# Altium footprint library Maxim Sensors.PcbLib: 240 footprints (part 3 of 15)
Each footprint in its own frame and in the unit in brackets; x right, y up, seen from the top. Pads: shape width x height; smd on the part's side, far side on the other; paste and mask are expansions set on the pad; w line width, h text height; cw(c..) or ccw(c..) is an arc to the next point about the centre after c.
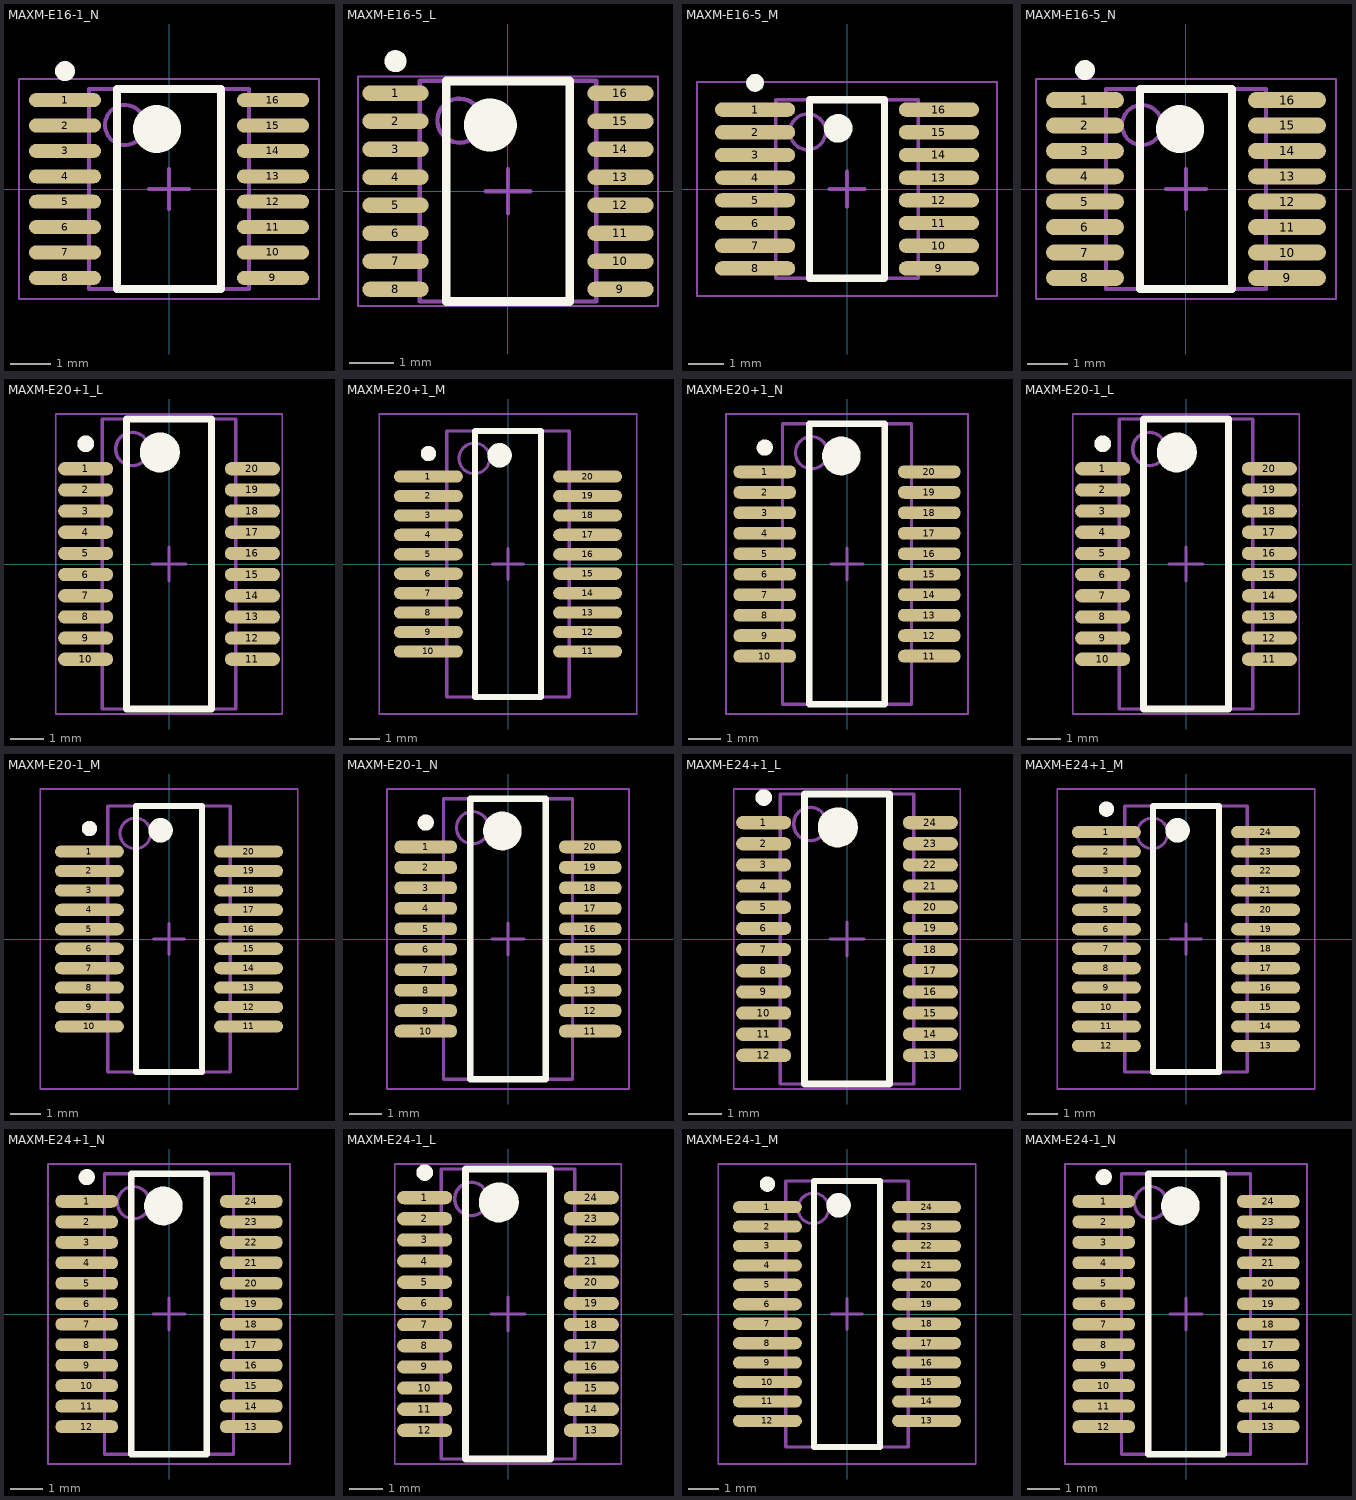
[diagram p2: the footprints below, top view; thin cyan lines are the x and y axes]

## MAXM-E16-1_N [mm] "SOP, 16-Leads, Body 4.9x3.89mm, Pitch 0.635mm, IPC Medium Density"
height 1.75
pads (16):
  oval 1.8x0.35 smd: 1(-2.6,2.222) 2(-2.6,1.587) 3(-2.6,0.953) 4(-2.6,0.318) 5(-2.6,-0.318) 6(-2.6,-0.953) 7(-2.6,-1.587) 8(-2.6,-2.222) 9(2.6,-2.222) 10(2.6,-1.587) 11(2.6,-0.953) 12(2.6,-0.318) 13(2.6,0.318) 14(2.6,0.953) 15(2.6,1.587) 16(2.6,2.222)
Top Overlay:
  circle w0.25: c-2.6,2.947 r0.125
  circle w0.6: c-0.3,1.5 r0.3
  lines w0.2: -1.3,-2.5 -1.3,2.5 1.3,2.5 1.3,-2.5 -1.3,-2.5
Mechanical 13:
  circle w0.1: c-1.1,1.6 r0.5
  lines w0.1: -2,-2.5 -2,2.5 2,2.5 2,-2.5 -2,-2.5
Mechanical 15:
  lines w0.05: -3.75,-2.75 -3.75,2.75 3.75,2.75 3.75,-2.75 -3.75,-2.75
  lines w0.1: -0.5,0 0.5,0 ; 0,-0.5 0,0.5
3D body: height 1.75, standoff 0.1, extent -2,-2.5 2,2.5

## MAXM-E16-5_L [mm] "SOP, 16-Leads, Body 4.89x3.9mm, Pitch 0.635mm, IPC High Density"
height 1.75
pads (16):
  oval 1.5x0.35 smd: 1(-2.55,2.222) 2(-2.55,1.587) 3(-2.55,0.953) 4(-2.55,0.318) 5(-2.55,-0.318) 6(-2.55,-0.953) 7(-2.55,-1.587) 8(-2.55,-2.222) 9(2.55,-2.222) 10(2.55,-1.587) 11(2.55,-0.953) 12(2.55,-0.318) 13(2.55,0.318) 14(2.55,0.953) 15(2.55,1.587) 16(2.55,2.222)
Top Overlay:
  circle w0.25: c-2.55,2.947 r0.125
  circle w0.6: c-0.4,1.5 r0.3
  lines w0.2: -1.4,-2.5 -1.4,2.5 1.4,2.5 1.4,-2.5 -1.4,-2.5
Mechanical 13:
  circle w0.1: c-1.1,1.6 r0.5
  lines w0.1: -2,-2.5 -2,2.5 2,2.5 2,-2.5 -2,-2.5
Mechanical 15:
  lines w0.05: -3.4,-2.6 -3.4,2.6 3.4,2.6 3.4,-2.6 -3.4,-2.6
  lines w0.1: -0.5,0 0.5,0 ; 0,-0.5 0,0.5
3D body: height 1.75, standoff 0.1, extent -2,-2.5 2,2.5

## MAXM-E16-5_M [mm] "SOP, 16-Leads, Body 4.89x3.9mm, Pitch 0.635mm, IPC Low Density"
height 1.75
pads (16):
  oval 2.25x0.4 smd: 1(-2.575,2.222) 2(-2.575,1.587) 3(-2.575,0.953) 4(-2.575,0.318) 5(-2.575,-0.318) 6(-2.575,-0.953) 7(-2.575,-1.587) 8(-2.575,-2.222) 9(2.575,-2.222) 10(2.575,-1.587) 11(2.575,-0.953) 12(2.575,-0.318) 13(2.575,0.318) 14(2.575,0.953) 15(2.575,1.587) 16(2.575,2.222)
Top Overlay:
  circle w0.25: c-2.575,2.973 r0.125
  circle w0.4: c-0.25,1.7 r0.2
  lines w0.2: -1.05,-2.5 -1.05,2.5 1.05,2.5 1.05,-2.5 -1.05,-2.5
Mechanical 13:
  circle w0.1: c-1.1,1.6 r0.5
  lines w0.1: -2,-2.5 -2,2.5 2,2.5 2,-2.5 -2,-2.5
Mechanical 15:
  lines w0.05: -4.2,-3 -4.2,3 4.2,3 4.2,-3 -4.2,-3
  lines w0.1: -0.5,0 0.5,0 ; 0,-0.5 0,0.5
3D body: height 1.75, standoff 0.1, extent -2,-2.5 2,2.5

## MAXM-E16-5_N [mm] "SOP, 16-Leads, Body 4.89x3.9mm, Pitch 0.635mm, IPC Medium Density"
height 1.75
pads (16):
  oval 1.95x0.4 smd: 1(-2.525,2.222) 2(-2.525,1.587) 3(-2.525,0.953) 4(-2.525,0.318) 5(-2.525,-0.318) 6(-2.525,-0.953) 7(-2.525,-1.587) 8(-2.525,-2.222) 9(2.525,-2.222) 10(2.525,-1.587) 11(2.525,-0.953) 12(2.525,-0.318) 13(2.525,0.318) 14(2.525,0.953) 15(2.525,1.587) 16(2.525,2.222)
Top Overlay:
  circle w0.6: c-0.15,1.5 r0.3
  circle w0.25: c-2.525,2.973 r0.125
  lines w0.2: -1.15,-2.5 1.15,-2.5 1.15,2.5 -1.15,2.5 -1.15,-2.5
Mechanical 13:
  circle w0.1: c-1.1,1.6 r0.5
  lines w0.1: -2,-2.5 2,-2.5 2,2.5 -2,2.5 -2,-2.5
Mechanical 15:
  lines w0.05: -3.75,-2.75 3.75,-2.75 3.75,2.75 -3.75,2.75 -3.75,-2.75
  lines w0.1: -0.5,0 0.5,0 ; 0,-0.5 0,0.5
3D body: height 1.75, standoff 0.1, extent -2,-2.5 2,2.5

## MAXM-E20+1_L [mm] "SOP, 20-Leads, Body 8.65x3.9mm, Pitch 0.635mm, IPC High Density"
height 1.75
pads (20):
  oval 1.65x0.4 smd: 1(-2.5,2.857) 2(-2.5,2.222) 3(-2.5,1.587) 4(-2.5,0.953) 5(-2.5,0.318) 6(-2.5,-0.318) 7(-2.5,-0.953) 8(-2.5,-1.587) 9(-2.5,-2.222) 10(-2.5,-2.857) 11(2.5,-2.857) 12(2.5,-2.222) 13(2.5,-1.587) 14(2.5,-0.953) 15(2.5,-0.318) 16(2.5,0.318) 17(2.5,0.953) 18(2.5,1.587) 19(2.5,2.222) 20(2.5,2.857)
Top Overlay:
  circle w0.25: c-2.5,3.608 r0.125
  circle w0.6: c-0.275,3.35 r0.3
  lines w0.2: -1.275,-4.35 -1.275,4.35 1.275,4.35 1.275,-4.35 -1.275,-4.35
Mechanical 13:
  circle w0.1: c-1.1,3.45 r0.5
  lines w0.1: -2,-4.35 -2,4.35 2,4.35 2,-4.35 -2,-4.35
Mechanical 15:
  lines w0.05: -3.4,-4.5 -3.4,4.5 3.4,4.5 3.4,-4.5 -3.4,-4.5
  lines w0.1: -0.5,0 0.5,0 ; 0,-0.5 0,0.5
3D body: height 1.75, standoff 0.1, extent -2,-4.35 2,4.35

## MAXM-E20+1_M [mm] "SOP, 20-Leads, Body 8.65x3.9mm, Pitch 0.635mm, IPC Low Density"
height 1.75
pads (20):
  oval 2.25x0.4 smd: 1(-2.6,2.857) 2(-2.6,2.222) 3(-2.6,1.587) 4(-2.6,0.953) 5(-2.6,0.318) 6(-2.6,-0.318) 7(-2.6,-0.953) 8(-2.6,-1.587) 9(-2.6,-2.222) 10(-2.6,-2.857) 11(2.6,-2.857) 12(2.6,-2.222) 13(2.6,-1.587) 14(2.6,-0.953) 15(2.6,-0.318) 16(2.6,0.318) 17(2.6,0.953) 18(2.6,1.587) 19(2.6,2.222) 20(2.6,2.857)
Top Overlay:
  circle w0.25: c-2.6,3.608 r0.125
  circle w0.4: c-0.275,3.55 r0.2
  lines w0.2: -1.075,-4.35 -1.075,4.35 1.075,4.35 1.075,-4.35 -1.075,-4.35
Mechanical 13:
  circle w0.1: c-1.1,3.45 r0.5
  lines w0.1: -2,-4.35 -2,4.35 2,4.35 2,-4.35 -2,-4.35
Mechanical 15:
  lines w0.05: -4.2,-4.9 -4.2,4.9 4.2,4.9 4.2,-4.9 -4.2,-4.9
  lines w0.1: -0.5,0 0.5,0 ; 0,-0.5 0,0.5
3D body: height 1.75, standoff 0.1, extent -2,-4.35 2,4.35

## MAXM-E20+1_N [mm] "SOP, 20-Leads, Body 8.65x3.9mm, Pitch 0.635mm, IPC Medium Density"
height 1.75
pads (20):
  oval 1.95x0.4 smd: 1(-2.55,2.857) 2(-2.55,2.222) 3(-2.55,1.587) 4(-2.55,0.953) 5(-2.55,0.318) 6(-2.55,-0.318) 7(-2.55,-0.953) 8(-2.55,-1.587) 9(-2.55,-2.222) 10(-2.55,-2.857) 11(2.55,-2.857) 12(2.55,-2.222) 13(2.55,-1.587) 14(2.55,-0.953) 15(2.55,-0.318) 16(2.55,0.318) 17(2.55,0.953) 18(2.55,1.587) 19(2.55,2.222) 20(2.55,2.857)
Top Overlay:
  circle w0.25: c-2.55,3.608 r0.125
  circle w0.6: c-0.175,3.35 r0.3
  lines w0.2: -1.175,-4.35 -1.175,4.35 1.175,4.35 1.175,-4.35 -1.175,-4.35
Mechanical 13:
  circle w0.1: c-1.1,3.45 r0.5
  lines w0.1: -2,-4.35 -2,4.35 2,4.35 2,-4.35 -2,-4.35
Mechanical 15:
  lines w0.05: -3.75,-4.65 -3.75,4.65 3.75,4.65 3.75,-4.65 -3.75,-4.65
  lines w0.1: -0.5,0 0.5,0 ; 0,-0.5 0,0.5
3D body: height 1.75, standoff 0.1, extent -2,-4.35 2,4.35

## MAXM-E20-1_L [mm] "SOP, 20-Leads, Body 8.65x3.9mm, Pitch 0.635mm, IPC High Density"
height 1.75
pads (20):
  oval 1.65x0.4 smd: 1(-2.5,2.857) 2(-2.5,2.222) 3(-2.5,1.587) 4(-2.5,0.953) 5(-2.5,0.318) 6(-2.5,-0.318) 7(-2.5,-0.953) 8(-2.5,-1.587) 9(-2.5,-2.222) 10(-2.5,-2.857) 11(2.5,-2.857) 12(2.5,-2.222) 13(2.5,-1.587) 14(2.5,-0.953) 15(2.5,-0.318) 16(2.5,0.318) 17(2.5,0.953) 18(2.5,1.587) 19(2.5,2.222) 20(2.5,2.857)
Top Overlay:
  circle w0.25: c-2.5,3.608 r0.125
  circle w0.6: c-0.275,3.35 r0.3
  lines w0.2: -1.275,-4.35 -1.275,4.35 1.275,4.35 1.275,-4.35 -1.275,-4.35
Mechanical 13:
  circle w0.1: c-1.1,3.45 r0.5
  lines w0.1: -2,-4.35 -2,4.35 2,4.35 2,-4.35 -2,-4.35
Mechanical 15:
  lines w0.05: -3.4,-4.5 -3.4,4.5 3.4,4.5 3.4,-4.5 -3.4,-4.5
  lines w0.1: -0.5,0 0.5,0 ; 0,-0.5 0,0.5
3D body: height 1.75, standoff 0.1, extent -2,-4.35 2,4.35

## MAXM-E20-1_M [mm] "SOP, 20-Leads, Body 8.65x3.9mm, Pitch 0.635mm, IPC Low Density"
height 1.75
pads (20):
  oval 2.25x0.4 smd: 1(-2.6,2.857) 2(-2.6,2.222) 3(-2.6,1.587) 4(-2.6,0.953) 5(-2.6,0.318) 6(-2.6,-0.318) 7(-2.6,-0.953) 8(-2.6,-1.587) 9(-2.6,-2.222) 10(-2.6,-2.857) 11(2.6,-2.857) 12(2.6,-2.222) 13(2.6,-1.587) 14(2.6,-0.953) 15(2.6,-0.318) 16(2.6,0.318) 17(2.6,0.953) 18(2.6,1.587) 19(2.6,2.222) 20(2.6,2.857)
Top Overlay:
  circle w0.25: c-2.6,3.608 r0.125
  circle w0.4: c-0.275,3.55 r0.2
  lines w0.2: -1.075,-4.35 -1.075,4.35 1.075,4.35 1.075,-4.35 -1.075,-4.35
Mechanical 13:
  circle w0.1: c-1.1,3.45 r0.5
  lines w0.1: -2,-4.35 -2,4.35 2,4.35 2,-4.35 -2,-4.35
Mechanical 15:
  lines w0.05: -4.2,-4.9 -4.2,4.9 4.2,4.9 4.2,-4.9 -4.2,-4.9
  lines w0.1: -0.5,0 0.5,0 ; 0,-0.5 0,0.5
3D body: height 1.75, standoff 0.1, extent -2,-4.35 2,4.35

## MAXM-E20-1_N [mm] "SOP, 20-Leads, Body 8.65x3.9mm, Pitch 0.635mm, IPC Medium Density"
height 1.75
pads (20):
  oval 1.95x0.4 smd: 1(-2.55,2.857) 2(-2.55,2.222) 3(-2.55,1.587) 4(-2.55,0.953) 5(-2.55,0.318) 6(-2.55,-0.318) 7(-2.55,-0.953) 8(-2.55,-1.587) 9(-2.55,-2.222) 10(-2.55,-2.857) 11(2.55,-2.857) 12(2.55,-2.222) 13(2.55,-1.587) 14(2.55,-0.953) 15(2.55,-0.318) 16(2.55,0.318) 17(2.55,0.953) 18(2.55,1.587) 19(2.55,2.222) 20(2.55,2.857)
Top Overlay:
  circle w0.25: c-2.55,3.608 r0.125
  circle w0.6: c-0.175,3.35 r0.3
  lines w0.2: -1.175,-4.35 -1.175,4.35 1.175,4.35 1.175,-4.35 -1.175,-4.35
Mechanical 13:
  circle w0.1: c-1.1,3.45 r0.5
  lines w0.1: -2,-4.35 -2,4.35 2,4.35 2,-4.35 -2,-4.35
Mechanical 15:
  lines w0.05: -3.75,-4.65 -3.75,4.65 3.75,4.65 3.75,-4.65 -3.75,-4.65
  lines w0.1: -0.5,0 0.5,0 ; 0,-0.5 0,0.5
3D body: height 1.75, standoff 0.1, extent -2,-4.35 2,4.35

## MAXM-E24+1_L [mm] "SOP, 24-Leads, Body 8.65x3.9mm, Pitch 0.635mm, IPC High Density"
height 1.75
pads (24):
  oval 1.65x0.4 smd: 1(-2.5,3.492) 2(-2.5,2.857) 3(-2.5,2.222) 4(-2.5,1.587) 5(-2.5,0.953) 6(-2.5,0.318) 7(-2.5,-0.318) 8(-2.5,-0.953) 9(-2.5,-1.587) 10(-2.5,-2.222) 11(-2.5,-2.857) 12(-2.5,-3.492) 13(2.5,-3.492) 14(2.5,-2.857) 15(2.5,-2.222) 16(2.5,-1.587) 17(2.5,-0.953) 18(2.5,-0.318) 19(2.5,0.318) 20(2.5,0.953) 21(2.5,1.587) 22(2.5,2.222) 23(2.5,2.857) 24(2.5,3.492)
Top Overlay:
  circle w0.25: c-2.5,4.243 r0.125
  circle w0.6: c-0.275,3.35 r0.3
  lines w0.2: -1.275,-4.35 -1.275,4.35 1.275,4.35 1.275,-4.35 -1.275,-4.35
Mechanical 13:
  circle w0.1: c-1.1,3.45 r0.5
  lines w0.1: -2,-4.35 -2,4.35 2,4.35 2,-4.35 -2,-4.35
Mechanical 15:
  lines w0.05: -3.4,-4.5 -3.4,4.5 3.4,4.5 3.4,-4.5 -3.4,-4.5
  lines w0.1: -0.5,0 0.5,0 ; 0,-0.5 0,0.5
3D body: height 1.75, standoff 0.1, extent -2,-4.35 2,4.35

## MAXM-E24+1_M [mm] "SOP, 24-Leads, Body 8.65x3.9mm, Pitch 0.635mm, IPC Low Density"
height 1.75
pads (24):
  oval 2.25x0.4 smd: 1(-2.6,3.492) 2(-2.6,2.857) 3(-2.6,2.222) 4(-2.6,1.587) 5(-2.6,0.953) 6(-2.6,0.318) 7(-2.6,-0.318) 8(-2.6,-0.953) 9(-2.6,-1.587) 10(-2.6,-2.222) 11(-2.6,-2.857) 12(-2.6,-3.492) 13(2.6,-3.492) 14(2.6,-2.857) 15(2.6,-2.222) 16(2.6,-1.587) 17(2.6,-0.953) 18(2.6,-0.318) 19(2.6,0.318) 20(2.6,0.953) 21(2.6,1.587) 22(2.6,2.222) 23(2.6,2.857) 24(2.6,3.492)
Top Overlay:
  circle w0.25: c-2.6,4.243 r0.125
  circle w0.4: c-0.275,3.55 r0.2
  lines w0.2: -1.075,-4.35 -1.075,4.35 1.075,4.35 1.075,-4.35 -1.075,-4.35
Mechanical 13:
  circle w0.1: c-1.1,3.45 r0.5
  lines w0.1: -2,-4.35 -2,4.35 2,4.35 2,-4.35 -2,-4.35
Mechanical 15:
  lines w0.05: -4.2,-4.9 -4.2,4.9 4.2,4.9 4.2,-4.9 -4.2,-4.9
  lines w0.1: -0.5,0 0.5,0 ; 0,-0.5 0,0.5
3D body: height 1.75, standoff 0.1, extent -2,-4.35 2,4.35

## MAXM-E24+1_N [mm] "SOP, 24-Leads, Body 8.65x3.9mm, Pitch 0.635mm, IPC Medium Density"
height 1.75
pads (24):
  oval 1.95x0.4 smd: 1(-2.55,3.492) 2(-2.55,2.857) 3(-2.55,2.222) 4(-2.55,1.587) 5(-2.55,0.953) 6(-2.55,0.318) 7(-2.55,-0.318) 8(-2.55,-0.953) 9(-2.55,-1.587) 10(-2.55,-2.222) 11(-2.55,-2.857) 12(-2.55,-3.492) 13(2.55,-3.492) 14(2.55,-2.857) 15(2.55,-2.222) 16(2.55,-1.587) 17(2.55,-0.953) 18(2.55,-0.318) 19(2.55,0.318) 20(2.55,0.953) 21(2.55,1.587) 22(2.55,2.222) 23(2.55,2.857) 24(2.55,3.492)
Top Overlay:
  circle w0.25: c-2.55,4.243 r0.125
  circle w0.6: c-0.175,3.35 r0.3
  lines w0.2: -1.175,-4.35 -1.175,4.35 1.175,4.35 1.175,-4.35 -1.175,-4.35
Mechanical 13:
  circle w0.1: c-1.1,3.45 r0.5
  lines w0.1: -2,-4.35 -2,4.35 2,4.35 2,-4.35 -2,-4.35
Mechanical 15:
  lines w0.05: -3.75,-4.65 -3.75,4.65 3.75,4.65 3.75,-4.65 -3.75,-4.65
  lines w0.1: -0.5,0 0.5,0 ; 0,-0.5 0,0.5
3D body: height 1.75, standoff 0.1, extent -2,-4.35 2,4.35

## MAXM-E24-1_L [mm] "SOP, 24-Leads, Body 8.65x3.9mm, Pitch 0.635mm, IPC High Density"
height 1.75
pads (24):
  oval 1.65x0.4 smd: 1(-2.5,3.492) 2(-2.5,2.857) 3(-2.5,2.222) 4(-2.5,1.587) 5(-2.5,0.953) 6(-2.5,0.318) 7(-2.5,-0.318) 8(-2.5,-0.953) 9(-2.5,-1.587) 10(-2.5,-2.222) 11(-2.5,-2.857) 12(-2.5,-3.492) 13(2.5,-3.492) 14(2.5,-2.857) 15(2.5,-2.222) 16(2.5,-1.587) 17(2.5,-0.953) 18(2.5,-0.318) 19(2.5,0.318) 20(2.5,0.953) 21(2.5,1.587) 22(2.5,2.222) 23(2.5,2.857) 24(2.5,3.492)
Top Overlay:
  circle w0.25: c-2.5,4.243 r0.125
  circle w0.6: c-0.275,3.35 r0.3
  lines w0.2: -1.275,-4.35 -1.275,4.35 1.275,4.35 1.275,-4.35 -1.275,-4.35
Mechanical 13:
  circle w0.1: c-1.1,3.45 r0.5
  lines w0.1: -2,-4.35 -2,4.35 2,4.35 2,-4.35 -2,-4.35
Mechanical 15:
  lines w0.05: -3.4,-4.5 -3.4,4.5 3.4,4.5 3.4,-4.5 -3.4,-4.5
  lines w0.1: -0.5,0 0.5,0 ; 0,-0.5 0,0.5
3D body: height 1.75, standoff 0.1, extent -2,-4.35 2,4.35

## MAXM-E24-1_M [mm] "SOP, 24-Leads, Body 8.65x3.9mm, Pitch 0.635mm, IPC Low Density"
height 1.75
pads (24):
  oval 2.25x0.4 smd: 1(-2.6,3.492) 2(-2.6,2.857) 3(-2.6,2.222) 4(-2.6,1.587) 5(-2.6,0.953) 6(-2.6,0.318) 7(-2.6,-0.318) 8(-2.6,-0.953) 9(-2.6,-1.587) 10(-2.6,-2.222) 11(-2.6,-2.857) 12(-2.6,-3.492) 13(2.6,-3.492) 14(2.6,-2.857) 15(2.6,-2.222) 16(2.6,-1.587) 17(2.6,-0.953) 18(2.6,-0.318) 19(2.6,0.318) 20(2.6,0.953) 21(2.6,1.587) 22(2.6,2.222) 23(2.6,2.857) 24(2.6,3.492)
Top Overlay:
  circle w0.25: c-2.6,4.243 r0.125
  circle w0.4: c-0.275,3.55 r0.2
  lines w0.2: -1.075,-4.35 -1.075,4.35 1.075,4.35 1.075,-4.35 -1.075,-4.35
Mechanical 13:
  circle w0.1: c-1.1,3.45 r0.5
  lines w0.1: -2,-4.35 -2,4.35 2,4.35 2,-4.35 -2,-4.35
Mechanical 15:
  lines w0.05: -4.2,-4.9 -4.2,4.9 4.2,4.9 4.2,-4.9 -4.2,-4.9
  lines w0.1: -0.5,0 0.5,0 ; 0,-0.5 0,0.5
3D body: height 1.75, standoff 0.1, extent -2,-4.35 2,4.35

## MAXM-E24-1_N [mm] "SOP, 24-Leads, Body 8.65x3.9mm, Pitch 0.635mm, IPC Medium Density"
height 1.75
pads (24):
  oval 1.95x0.4 smd: 1(-2.55,3.492) 2(-2.55,2.857) 3(-2.55,2.222) 4(-2.55,1.587) 5(-2.55,0.953) 6(-2.55,0.318) 7(-2.55,-0.318) 8(-2.55,-0.953) 9(-2.55,-1.587) 10(-2.55,-2.222) 11(-2.55,-2.857) 12(-2.55,-3.492) 13(2.55,-3.492) 14(2.55,-2.857) 15(2.55,-2.222) 16(2.55,-1.587) 17(2.55,-0.953) 18(2.55,-0.318) 19(2.55,0.318) 20(2.55,0.953) 21(2.55,1.587) 22(2.55,2.222) 23(2.55,2.857) 24(2.55,3.492)
Top Overlay:
  circle w0.25: c-2.55,4.243 r0.125
  circle w0.6: c-0.175,3.35 r0.3
  lines w0.2: -1.175,-4.35 -1.175,4.35 1.175,4.35 1.175,-4.35 -1.175,-4.35
Mechanical 13:
  circle w0.1: c-1.1,3.45 r0.5
  lines w0.1: -2,-4.35 -2,4.35 2,4.35 2,-4.35 -2,-4.35
Mechanical 15:
  lines w0.05: -3.75,-4.65 -3.75,4.65 3.75,4.65 3.75,-4.65 -3.75,-4.65
  lines w0.1: -0.5,0 0.5,0 ; 0,-0.5 0,0.5
3D body: height 1.75, standoff 0.1, extent -2,-4.35 2,4.35